# Altium schematic symbol library BC859B.Schlib: 1 symbol
Pins are listed as number, name and electrical type; pins without a type are passive.

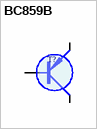
[diagram p0: symbol BC859B]

## BC859B
designator T?
SOT23     30V 0.1A 100MHz 4.5p (10V) (BC849C)
pins: 1 B, 2 E (oe), 3 C (oc)
1 alternate drawing of the same symbol